# Altium schematic symbol library SCH_Lib.SchLib: 2 symbols
Pins are listed as number, name and electrical type; pins without a type are passive.

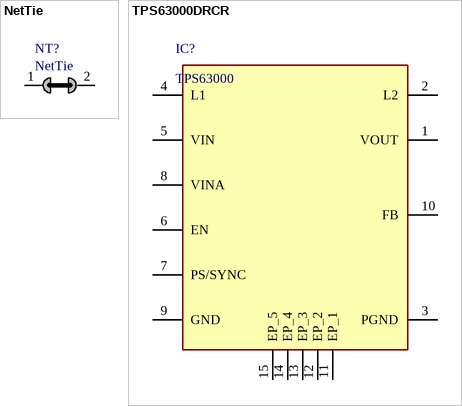
[diagram p0: symbols NetTie to TPS63000DRCR]

## NetTie
designator NT?  (net tie, no BOM)
footprint NetTie_Narrow2
pins: 1, 2

## TPS63000DRCR
designator IC?, comment TPS63000
Buck-Boost Switching Regulator IC Positive Adjustable 1.2V 1 Output 1.6A (Switch) 10-VFDFN Exposed Pad; Manufacturer_Name: Texas Instruments; Manufacturer_Part_Number: TPS63002DRCR; Datasheet Link: https://www.ti.com/lit/gpn/TPS63002; Height: 1mm; Arrow Part Number: TPS63002DRCR; Arrow Price/Stock: https://www.arrow.com/en/products/tps63002drcr/texas-instruments; Mouser Part Number: 595-TPS63002DRCR; Mouser Price/Stock: https://www.mouser.co.uk/ProductDetail/Texas-Instruments/TPS63002DRCR?qs=QZuYiDxzHagvx6A2KHyUrA%3D%3D
footprint TPS63002DRCR
pins: 1 VOUT, 2 L2, 3 PGND, 4 L1, 5 VIN, 6 EN, 7 PS/SYNC, 8 VINA, 9 GND, 10 FB, 11 EP_1, 12 EP_2, 13 EP_3, 14 EP_4, 15 EP_5